# Altium footprint library Miscellaneous.PcbLib: 71 footprints (part 4 of 5)
Each footprint in its own frame and in the unit in brackets; x right, y up, seen from the top. Pads: shape width x height; smd on the part's side, far side on the other; paste and mask are expansions set on the pad; w line width, h text height; cw(c..) or ccw(c..) is an arc to the next point about the centre after c.
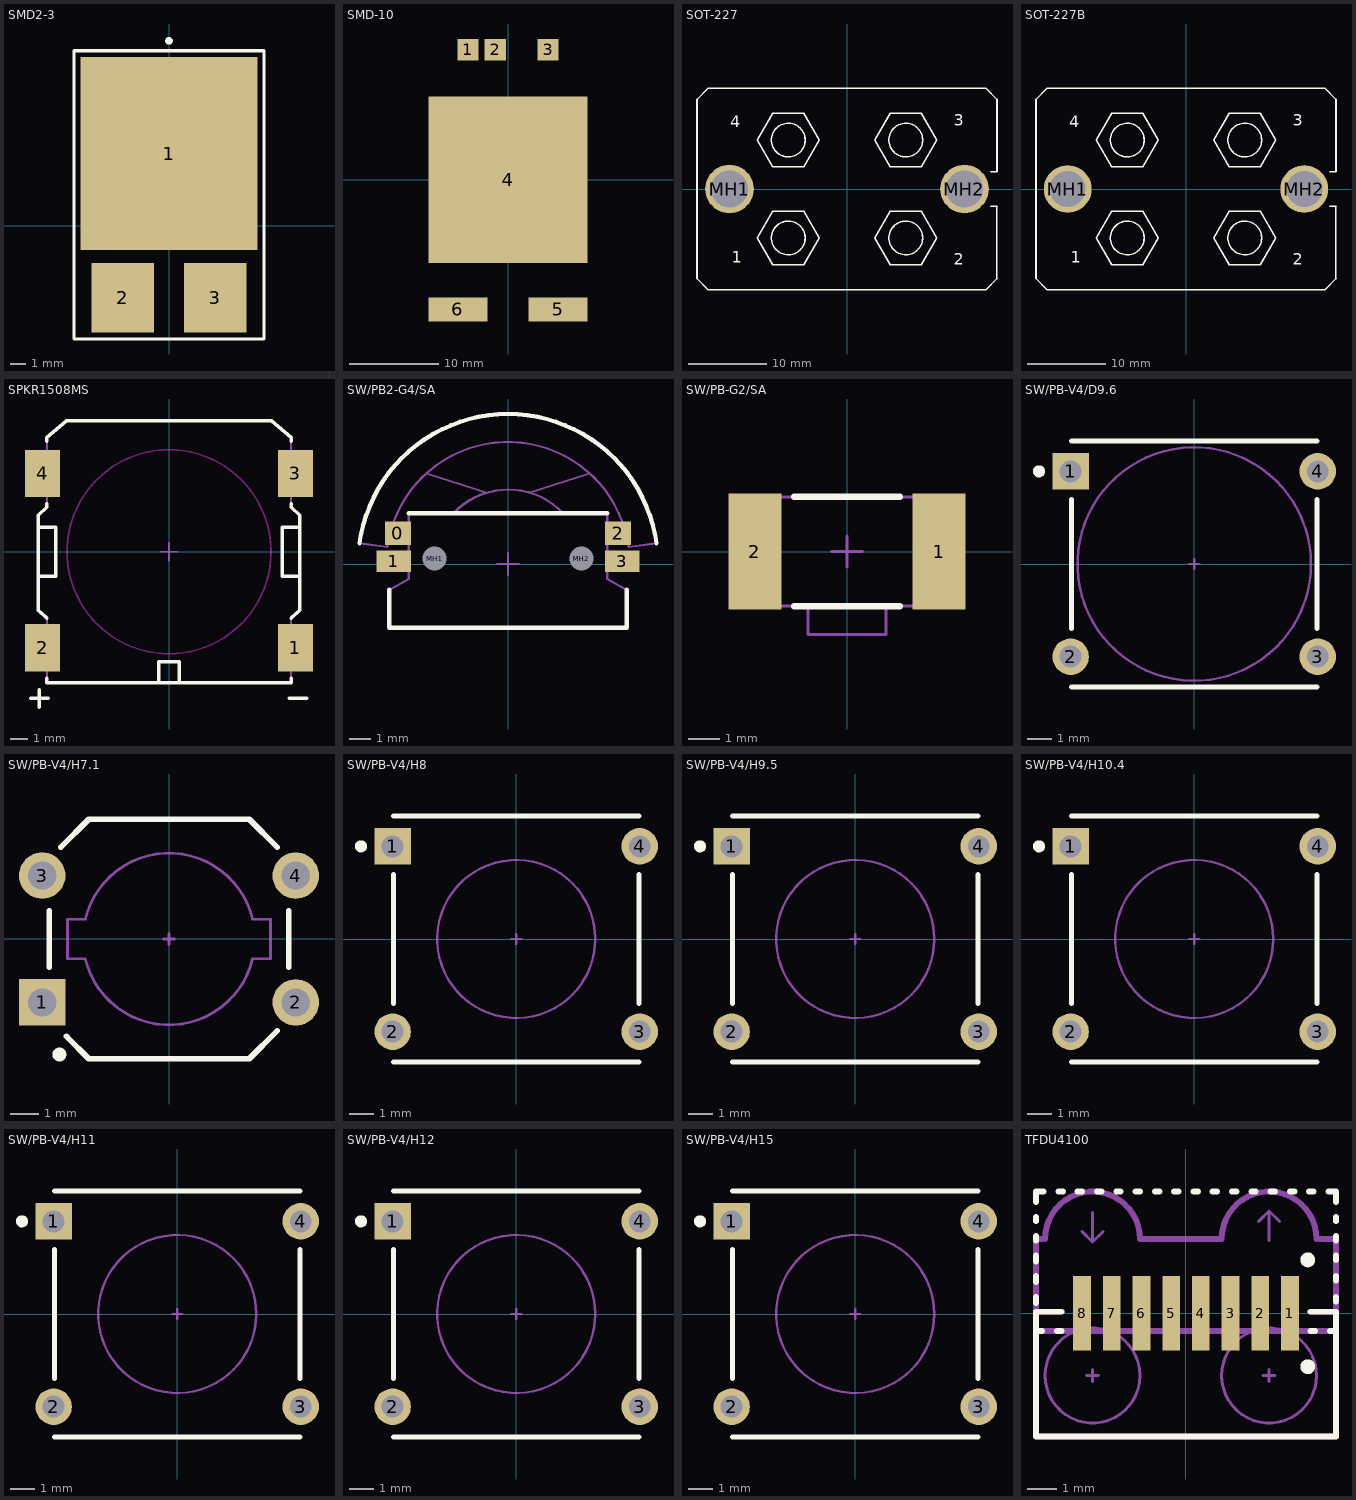
[diagram p3: the footprints below, top view; thin cyan lines are the x and y axes]

## SMD2-3 [mm] "SM; 3 Leadless Terminals; Body 17.65 x 13.46 x 3.58 mm (LxWxH)"
height 3.58
pads (3):
  rect 11.7x12.7 smd: 1(0,4.75)
  rect 4.1x4.6 smd: 2(-3.048,-4.75) 3(3.048,-4.75)
Top Overlay:
  circle w0.25: c0,12.175 r0.125
  lines w0.2: -6.25,-7.475 -6.25,11.525 6.25,11.525 6.25,-7.475 -6.25,-7.475

## SMD-10 [mm] "SMD-10 Package; 6 Terminals; Body 29 x 14.2 x 4.27 mm (LxWxH)"
height 4.27
pads (6):
  rect 2.4x2.4 smd: 1(-4.5,14.6) 2(-1.45,14.6) 3(4.5,14.6)
  rect 17.9x18.75 smd: 4(0,-0.025)
  rect 6.65x2.7 smd: 5(5.625,-14.6) 6(-5.625,-14.6)

## SOT-227 [mm] "SOT-227; 4 Screw Terminals, 2 Mounting Holes"
height 12.3
pads (2):
  round 6.2 hole 4.7: MH1(-15,0) MH2(15,0)
Top Overlay:
  circle w0.2: c7.5,-6.25 r2.15
  circle w0.2: c-7.5,-6.25 r2.15
  circle w0.2: c7.5,6.25 r2.15
  circle w0.2: c-7.5,6.25 r2.15
  lines w0.2: 18.35,-2.2 19.15,-2.2 ; 18.35,2.2 19.15,2.2 19.15,11.436 17.736,12.85 -17.736,12.85 -19.15,11.436 -19.15,-11.436 -17.736,-12.85 17.736,-12.85 19.15,-11.436 ; 19.123,-11.409 19.123,-2.2 ; -11.45,-6.25 -9.475,-2.829 -5.525,-2.829 -3.55,-6.25 -5.525,-9.671 -9.475,-9.671 -11.45,-6.25 ; -11.45,6.25 -9.475,9.671 -5.525,9.671 -3.55,6.25 -5.525,2.829 -9.475,2.829 -11.45,6.25 ; 3.55,-6.25 5.525,-2.829 9.475,-2.829 11.45,-6.25 9.475,-9.671 5.525,-9.671 3.55,-6.25 ; 3.55,6.25 5.525,9.671 9.475,9.671 11.45,6.25 9.475,2.829 5.525,2.829 3.55,6.25
  text "4" at -14.9,7.9 h1.5
  text "3" at 13.6,8.1 h1.5
  text "2" at 13.6,-9.7 h1.5
  text "1" at -14.7,-9.4 h1.5

## SOT-227B [mm] "SOT-227; 4 Screw Terminals, 2 Mounting Holes"
pads (2):
  round 6.1 hole 4.6: MH1(-15.1,0) MH2(15.1,0)
Top Overlay:
  circle w0.2: c-7.5,6.25 r2.15
  circle w0.2: c7.5,6.25 r2.15
  circle w0.2: c-7.5,-6.25 r2.15
  circle w0.2: c7.5,-6.25 r2.15
  lines w0.2: 18.35,-2.2 19.15,-2.2 ; 18.35,2.2 19.15,2.2 19.15,11.436 17.736,12.85 -17.736,12.85 -19.15,11.436 -19.15,-11.436 -17.736,-12.85 17.736,-12.85 19.15,-11.436 ; 19.123,-11.409 19.123,-2.2 ; -11.45,-6.25 -9.475,-9.671 -5.525,-9.671 -3.55,-6.25 -5.525,-2.829 -9.475,-2.829 -11.45,-6.25 ; -11.45,6.25 -9.475,2.829 -5.525,2.829 -3.55,6.25 -5.525,9.671 -9.475,9.671 -11.45,6.25 ; 3.55,-6.25 5.525,-9.671 9.475,-9.671 11.45,-6.25 9.475,-2.829 5.525,-2.829 3.55,-6.25 ; 3.55,6.25 5.525,2.829 9.475,2.829 11.45,6.25 9.475,9.671 5.525,9.671 3.55,6.25
  text "1" at -14.7,-9.4 h1.5
  text "2" at 13.6,-9.7 h1.5
  text "3" at 13.6,8.1 h1.5
  text "4" at -14.9,7.9 h1.5

## SPKR1508MS [mm] "Speaker; 4 Leads, Body 15x15x4mm (LxWxH typ), SMT"
height 4.5
pads (4):
  rect 2x2.7 smd: 1(7.25,-5.5) 2(-7.25,-5.5) 3(7.25,4.5) 4(-7.25,4.5)
Top Overlay:
  lines w0.2: -7.915,-8.4 -6.915,-8.4 ; -7.5,-1.4 -6.5,-1.4 -6.5,1.4 -7.5,1.4 ; -7.425,-8.9 -7.425,-7.9 ; -7,-7.25 -7,-7.5 7,-7.5 7,-7.25 ; -7,-3.8 -7.5,-3.35 -7.5,2.1 -7,2.55 -7,2.75 ; -7,6.35 -7,6.55 -5.9,7.5 5.9,7.5 7,6.55 7,6.35 ; -0.6,-7.5 -0.6,-6.3 0.6,-6.3 0.6,-7.5 ; 6.885,-8.4 7.885,-8.4 ; 7,-3.8 7.5,-3.35 7.5,2.1 7,2.55 7,2.75 ; 7.5,-1.4 6.5,-1.4 6.5,1.4 7.5,1.4
Keep-Out Layer:
  circle w0.1: c0,0 r5.85
Mechanical 13:
  lines w0.1: -7.5,-3.35 -7,-3.8 -7,-7.5 7,-7.5 7,-3.8 7.5,-3.35 7.5,2.1 7,2.55 7,6.55 5.9,7.5 -5.9,7.5 -7,6.55 -7,2.55 -7.5,2.1 -7.5,-3.35
Mechanical 15:
  lines w0.1: -0.5,0 0.5,0 ; 0,-0.5 0,0.5
3D body: height 4.5, standoff 0, extent -7.501,-7.501 7.501,7.501

## SW/PB2-G4/SA [mm] "Switch, Side 3-Way, SM; 4 Leads; Body 13.8x10.55mm (LxW)"
height 1.65
pads (6):
  rect 1.2x1.1 smd: 0(-5.1,1.425) 2(5.1,1.425)
  rect 1.6x1 smd: 1(-5.3,0.125) 3(5.3,0.125)
  round 0.8 hole 1.1: MH1(-3.4,0.25) MH2(3.4,0.25)
Top Overlay:
  lines w0.2: -6.883,0.96 cw(c0,0) 6.883,0.96 ; -5.5,-1.2 -5.5,-2.95 5.5,-2.95 5.5,-1.2 ; -4.6,2.35 4.6,2.35
Mechanical 13:
  lines w0.1: -3.788,4.192 ccw(c0,0) -5.596,0.781 ; -3.787,4.196 -1.012,3.304 ; -2.552,2.35 cw(c-0.026,0) -1.012,3.306 ; -2.5,2.35 cw(c0.026,0) 2.552,2.35 ; 1.012,3.304 3.787,4.196 ; -5.596,0.781 cw(c0,0) 5.596,0.781 6.883,0.96 ccw(c0,0) -6.883,0.96 -5.596,0.781 ; -5.5,-2.95 5.5,-2.95 5.5,-1.2 4.6,-0.7 4.6,2.35 -4.6,2.35 -4.6,-0.7 -5.5,-1.2 -5.5,-2.95
Mechanical 15:
  lines w0.1: -0.5,0 0.5,0 ; 0,-0.5 0,0.5
3D body: height 1.65, standoff 0, extent -6.884,-2.951 6.884,6.947

## SW/PB-G2/SA [mm] "Switch, Side Tact, SM; 2 Leads; Body 7x3.5mm (LxW)"
height 1.75
pads (2):
  rect 1.7x3.7 smd: 1(2.95,0) 2(-2.95,0)
Top Overlay:
  lines w0.2: -1.7,-1.75 1.7,-1.75 ; -1.7,1.75 1.7,1.75
Mechanical 13:
  lines w0.1: -2.75,-1.75 -2.75,1.75 2.75,1.75 2.75,-1.75 1.25,-1.75 1.25,-2.65 -1.25,-2.65 -1.25,-1.75 -2.75,-1.75
Mechanical 15:
  lines w0.1: -0.5,0 0.5,0 ; 0,-0.5 0,0.5
3D body: height 1.75, standoff 0, extent -2.749,-2.649 2.749,1.749

## SW/PB-V4/D9.6 [mm] "Switch, Thru-Hole; Single Pole; 4 Leads; Body 10.10 x 10.10 mm (LxW typ); Row Spacing 10.16 mm; Pitch 7.62 mm"
height 14.9
pads (4):
  rect 1.5x1.5 hole 0.9: 1(-5.08,3.81)
  round 1.5 hole 0.9: 2(-5.08,-3.81) 3(5.08,-3.81) 4(5.08,3.81)
Top Overlay:
  circle w0.25: c-6.38,3.81 r0.125
  lines w0.2: -5.05,-5.05 5.05,-5.05 ; -5.05,-2.66 -5.05,2.66 ; -5.05,5.05 5.05,5.05 ; 5.05,-2.66 5.05,2.66
Mechanical 1:
  circle w0.1: c0,0 r4.8
  lines w0.1: -0.2,0 0.2,0 ; 0,-0.2 0,0.2

## SW/PB-V4/H7.1 [mm] "Switch, Push Button, Thru-Hole; 4 Leads; Body 8.5 x 8.5 mm (LxW typ); Row Spacing 9.0 mm; Pitch 4.5 mm"
height 7.1
pads (4):
  rect 1.65x1.65 hole 1: 1(-4.5,-2.25)
  round 1.65 hole 1: 2(4.5,-2.25) 3(-4.5,2.25) 4(4.5,2.25)
Top Overlay:
  circle w0.25: c-3.891,-4.1 r0.125
  lines w0.2: -4.25,-1 -4.25,1 ; -3.837,3.263 -2.85,4.25 2.85,4.25 3.837,3.263 ; -3.638,-3.458 -2.85,-4.25 2.85,-4.25 3.837,-3.263 ; 4.25,-1 4.25,1
Mechanical 1:
  lines w0.1: -2.97,0.7 -3.6,0.7 -3.6,-0.7 -2.97,-0.7 ccw(c-0.001,0) 2.967,-0.7 ; -2.969,0.7 cw(c0,0) 2.969,0.7 ; -0.2,0 0.2,0 ; 0,-0.2 0,0.2 ; 2.97,-0.7 3.6,-0.7 3.6,0.7 2.97,0.7

## SW/PB-V4/H8 [mm] "Switch, Thru-Hole; Single Pole; 4 Leads; Body 10.10 x 10.10 mm (LxW typ); Row Spacing 10.16 mm; Pitch 7.62 mm"
height 8
pads (4):
  rect 1.5x1.5 hole 0.9: 1(-5.08,3.81)
  round 1.5 hole 0.9: 2(-5.08,-3.81) 3(5.08,-3.81) 4(5.08,3.81)
Top Overlay:
  circle w0.25: c-6.38,3.81 r0.125
  lines w0.2: -5.05,-5.05 5.05,-5.05 ; -5.05,-2.66 -5.05,2.66 ; -5.05,5.05 5.05,5.05 ; 5.05,-2.66 5.05,2.66
Mechanical 1:
  circle w0.1: c0,0 r3.25
  lines w0.1: -0.2,0 0.2,0 ; 0,-0.2 0,0.2

## SW/PB-V4/H9.5 [mm] "Switch, Thru-Hole; Single Pole; 4 Leads; Body 10.10 x 10.10 mm (LxW typ); Row Spacing 10.16 mm; Pitch 7.62 mm"
height 9.5
pads (4):
  rect 1.5x1.5 hole 0.9: 1(-5.08,3.81)
  round 1.5 hole 0.9: 2(-5.08,-3.81) 3(5.08,-3.81) 4(5.08,3.81)
Top Overlay:
  circle w0.25: c-6.38,3.81 r0.125
  lines w0.2: -5.05,-5.05 5.05,-5.05 ; -5.05,-2.66 -5.05,2.66 ; -5.05,5.05 5.05,5.05 ; 5.05,-2.66 5.05,2.66
Mechanical 1:
  circle w0.1: c0,0 r3.25
  lines w0.1: -0.2,0 0.2,0 ; 0,-0.2 0,0.2

## SW/PB-V4/H10.4 [mm] "Switch, Thru-Hole; Single Pole; 4 Leads; Body 10.10 x 10.10 mm (LxW typ); Row Spacing 10.16 mm; Pitch 7.62 mm"
height 10.4
pads (4):
  rect 1.5x1.5 hole 0.9: 1(-5.08,3.81)
  round 1.5 hole 0.9: 2(-5.08,-3.81) 3(5.08,-3.81) 4(5.08,3.81)
Top Overlay:
  circle w0.25: c-6.38,3.81 r0.125
  lines w0.2: -5.05,-5.05 5.05,-5.05 ; -5.05,-2.66 -5.05,2.66 ; -5.05,5.05 5.05,5.05 ; 5.05,-2.66 5.05,2.66
Mechanical 1:
  circle w0.1: c0,0 r3.25
  lines w0.1: -0.2,0 0.2,0 ; 0,-0.2 0,0.2

## SW/PB-V4/H11 [mm] "Switch, Thru-Hole; Single Pole; 4 Leads; Body 10.10 x 10.10 mm (LxW typ); Row Spacing 10.16 mm; Pitch 7.62 mm"
height 11
pads (4):
  rect 1.5x1.5 hole 0.9: 1(-5.08,3.81)
  round 1.5 hole 0.9: 2(-5.08,-3.81) 3(5.08,-3.81) 4(5.08,3.81)
Top Overlay:
  circle w0.25: c-6.38,3.81 r0.125
  lines w0.2: -5.05,-5.05 5.05,-5.05 ; -5.05,-2.66 -5.05,2.66 ; -5.05,5.05 5.05,5.05 ; 5.05,-2.66 5.05,2.66
Mechanical 1:
  circle w0.1: c0,0 r3.25
  lines w0.1: -0.2,0 0.2,0 ; 0,-0.2 0,0.2

## SW/PB-V4/H12 [mm] "Switch, Thru-Hole; Single Pole; 4 Leads; Body 10.10 x 10.10 mm (LxW typ); Row Spacing 10.16 mm; Pitch 7.62 mm"
height 12
pads (4):
  rect 1.5x1.5 hole 0.9: 1(-5.08,3.81)
  round 1.5 hole 0.9: 2(-5.08,-3.81) 3(5.08,-3.81) 4(5.08,3.81)
Top Overlay:
  circle w0.25: c-6.38,3.81 r0.125
  lines w0.2: -5.05,-5.05 5.05,-5.05 ; -5.05,-2.66 -5.05,2.66 ; -5.05,5.05 5.05,5.05 ; 5.05,-2.66 5.05,2.66
Mechanical 1:
  circle w0.1: c0,0 r3.25
  lines w0.1: -0.2,0 0.2,0 ; 0,-0.2 0,0.2

## SW/PB-V4/H15 [mm] "Switch, Thru-Hole; Single Pole; 4 Leads; Body 10.10 x 10.10 mm (LxW typ); Row Spacing 10.16 mm; Pitch 7.62 mm"
height 15
pads (4):
  rect 1.5x1.5 hole 0.9: 1(-5.08,3.81)
  round 1.5 hole 0.9: 2(-5.08,-3.81) 3(5.08,-3.81) 4(5.08,3.81)
Top Overlay:
  circle w0.25: c-6.38,3.81 r0.125
  lines w0.2: -5.05,-5.05 5.05,-5.05 ; -5.05,-2.66 -5.05,2.66 ; -5.05,5.05 5.05,5.05 ; 5.05,-2.66 5.05,2.66
Mechanical 1:
  circle w0.1: c0,0 r3.25
  lines w0.1: -0.2,0 0.2,0 ; 0,-0.2 0,0.2

## TFDU4100 [mm] "IrDA Transceiver; SM; 8 Leads; Body 10.1 x 4.02 x4.70 (LxWxH max)"
height 4.7
pads (8):
  rect 0.6x2.5 smd: 1(3.5,0) 2(2.5,0) 3(1.5,0) 4(0.5,0) 5(-0.5,0) 6(-1.5,0) 7(-2.5,0) 8(-3.5,0)
Top Overlay:
  circle w0.25: c4.1,-1.8 r0.125
  circle w0.25: c4.1,1.8 r0.125
  lines w0.2: -5.05,-0.15 -5.055,-0.595 -4.85,-0.6 -5,-0.6 ; -5.05,0 -5.05,0.05 ; -5.05,0.35 -5.05,0.55 ; -5.05,1.05 -5.05,1.25 ; -5.05,2.45 -5.05,2.6 ; -5.05,3.1 -5.05,3.25 ; -5.05,3.75 -5.05,4.1 -4.8,4.1 ; -4.35,-0.6 -4.2,-0.6 ; -4.3,4.1 -4.15,4.1 ; -4.2,0.05 -5.05,0.05 ; -3.65,4.1 -3.5,4.1 ; -3,4.1 -2.85,4.1 ; -2.35,4.1 -2.2,4.1 ; -1.7,4.1 -1.55,4.1 ; -1.05,4.1 -0.9,4.1 ; -0.4,4.1 -0.25,4.1 ; 0.25,4.1 0.4,4.1 ; 0.9,4.1 1.05,4.1 ; 1.55,4.1 1.7,4.1 ; 2.2,4.1 2.35,4.1 ; 2.85,4.1 3,4.1 ; 3.5,4.1 3.65,4.1 ; 4.15,4.1 4.3,4.1 ; 4.2,-0.6 4.35,-0.6 ; 4.2,0.05 5.05,0.05 ; 4.8,4.1 5.05,4.1 5.05,3.75 ; 5.05,-0.15 5.055,-0.595 ; 5.05,0.4 5.05,0.55 ; 5.05,1.1 5.05,1.25 ; 5.05,1.8 5.05,1.95 ; 5.05,2.45 5.05,2.6 ; 5.05,3.1 5.05,3.25 ; -5.05,0.05 -5.05,-4.15 5.05,-4.15 5.05,0.05 ; 5.05,0.05 5.05,0.05 ; -5.05,1.75 -5.05,1.95 -5.05,1.75 ; 4.85,-0.6 5,-0.6 4.85,-0.6
Mechanical 1:
  circle w0.1: c-3.15,-2.1 r1.6
  circle w0.1: c2.8,-2.1 r1.6
  lines w0.1: -3.5,2.75 -3.15,2.4 ; -3.35,-2.1 -2.95,-2.1 ; -3.15,-2.3 -3.15,-1.9 ; -3.15,3.4 -3.15,2.4 ; -2.8,2.75 -3.15,2.4 ; 2.45,3.1 2.8,3.45 ; 2.6,-2.1 3,-2.1 ; 2.8,-2.3 2.8,-1.9 ; 2.8,2.45 2.8,3.45 ; 3.15,3.1 2.8,3.45
  lines w0.2: -4.85,2.5 -5.05,2.5 -5.05,-0.6 5.05,-0.6 5.05,2.5 4.5,2.5 ; -4.75,2.5 cw(c-3.15,2.5) -1.55,2.5 1.2,2.5 cw(c2.8,2.5) 4.4,2.5 ; -4.2,0.05 -5.05,0.05 -5.05,-4.15 5.05,-4.15 5.05,0.05 4.2,0.05
  text "Rx" at -3.3,-3 h0.25
  text "Tx" at 2.65,-3 h0.25